# Altium footprint library SparkFun-Switches.PCBLIB: 67 footprints (part 3 of 6)
Each footprint in its own frame and in the unit in brackets; x right, y up, seen from the top. Pads: shape width x height; smd on the part's side, far side on the other; paste and mask are expansions set on the pad; w line width, h text height; cw(c..) or ccw(c..) is an arc to the next point about the centre after c.
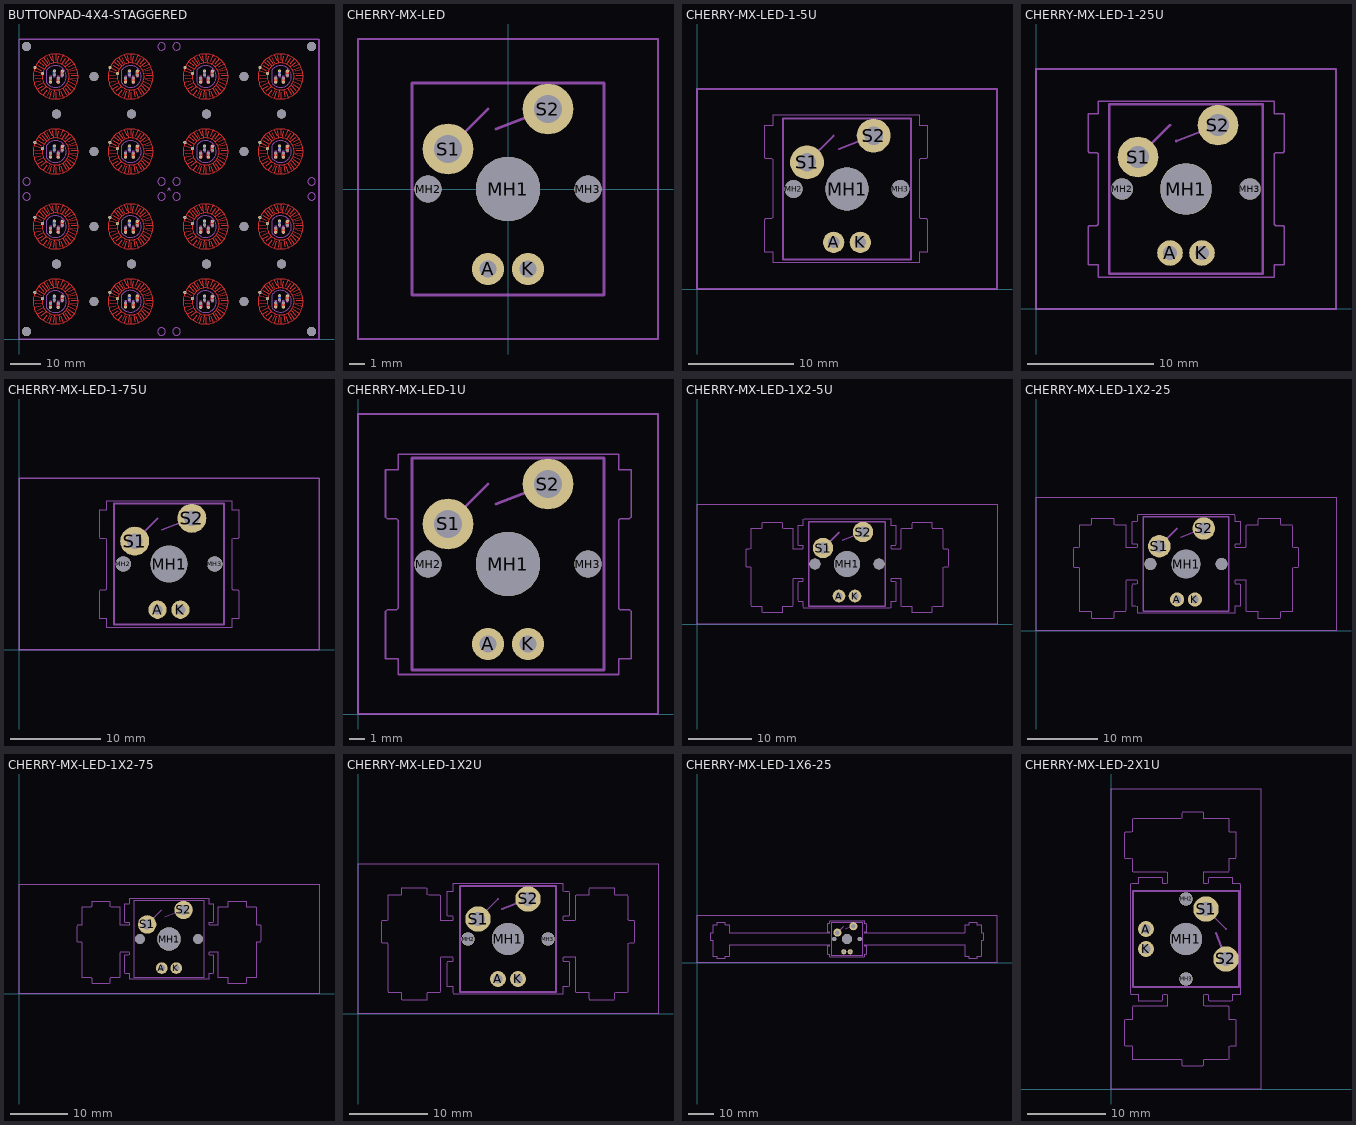
[diagram p2: the footprints below, top view; thin cyan lines are the x and y axes]

## BUTTONPAD-4X4-STAGGERED [mil]
pads (180):
  round 40 hole 20: BLU0(515,3371) BLU1(1500,3371) BLU2(2485,3371) BLU3(3470,3371) BLU4(515,2386) BLU5(1500,2386) BLU6(2485,2386) BLU7(3470,2386) BLU8(515,1401) BLU9(1500,1401) BLU10(2485,1401) BLU11(3470,1401) BLU12(515,416) BLU13(1500,421) BLU14(2485,416) BLU15(3470,421) GND0(464,3518) GND1(1449,3518) GND2(2434,3518) GND3(3419,3518) GND4(464,2533) GND5(1449,2533) GND6(2434,2533) GND7(3419,2533) GND8(464,1548) GND9(1449,1548) GND10(2434,1548) GND11(3419,1548) GND12(464,563) GND13(1449,568) GND14(2434,563) GND15(3419,568) GRN0(568,3514) GRN1(1553,3514) GRN2(2538,3514) GRN3(3523,3514) GRN4(568,2529) GRN5(1553,2529) GRN6(2538,2529) GRN7(3523,2529) GRN8(568,1544) GRN9(1553,1544) GRN10(2538,1544) GRN11(3523,1544) GRN12(568,559) GRN13(1553,564) GRN14(2538,559) GRN15(3523,564) RED0(413,3371) RED1(1398,3371) RED2(2383,3371) RED3(3368,3371) RED4(413,2386) RED5(1398,2386) RED6(2383,2386) RED7(3368,2386) RED8(413,1401) RED9(1398,1401) RED10(2383,1401) RED11(3368,1401) RED12(413,416) RED13(1398,421) RED14(2383,416) RED15(3368,421) SIG0(208.19,3563.5) SIG1(308.19,3483.5) SIG2(1192.44,3563.5) SIG3(1292.44,3483.5) SIG4(2176.69,3563.5) SIG5(2276.69,3483.5) SIG6(3160.94,3563.5) SIG7(3260.94,3483.5)
  round 118.11 hole 118.11 unplated: MH1(492.13,984.25) MH2(984.25,1476.38) MH3(1476.38,984.25) MH4(984.25,492.13) MH5(2460.63,984.25) MH6(2952.76,1476.38) MH7(3444.88,984.25) MH8(2952.76,492.13) MH9(492.13,2952.76) MH10(984.25,3444.88) MH11(1476.38,2952.76) MH12(984.25,2460.63) MH13(2460.63,2952.76) MH14(2952.76,3444.88) MH15(3444.88,2952.76) MH16(2952.76,2460.63) MH17(97.8,3839.21) MH18(3839.21,3839.21) MH19(3839.21,97.8) MH20(97.8,97.8)
  round 36 hole 36 unplated: MH21(413,3422) MH22(464,3467) MH23(515,3422) MH24(568,3463) MH25(1398,3422) MH26(1449,3467) MH27(1500,3422) MH28(1553,3463) MH29(2383,3422) MH30(2434,3467) MH31(2485,3422) MH32(2538,3463) MH33(3368,3422) MH34(3419,3467) MH35(3470,3422) MH36(3523,3463) MH37(413,2437) MH38(464,2482) MH39(515,2437) MH40(568,2478) MH41(1398,2437) MH42(1449,2482) MH43(1500,2437) MH44(1553,2478) MH45(2383,2437) MH46(2434,2482) MH47(2485,2437) MH48(2538,2478) MH49(3368,2437) MH50(3419,2482) MH51(3470,2437) MH52(3523,2478) MH53(413,1452) MH54(464,1497) MH55(515,1452) MH56(568,1493) MH57(1398,1452) MH58(1449,1497) MH59(1500,1452) MH60(1553,1493) MH61(2383,1452) MH62(2434,1497) MH63(2485,1452) MH64(2538,1493) MH65(3368,1452) MH66(3419,1497) MH67(3470,1452) MH68(3523,1493) MH69(413,467) MH70(464,512) MH71(515,467) MH72(568,508) MH73(1398,472) MH74(1449,517) MH75(1500,472) MH76(1553,513) MH77(2383,467) MH78(2434,512) MH79(2485,467) MH80(2538,508) MH81(3368,472) MH82(3419,517) MH83(3470,472) MH84(3523,513)
  round 43.62 hole 23.62: SIG8(208.19,2579.25) SIG9(308.19,2499.25) SIG10(1192.44,2579.25) SIG11(1292.44,2499.25) SIG12(2176.69,2579.25) SIG13(2276.69,2499.25) SIG14(3160.94,2579.25) SIG15(3260.94,2499.25) SIG16(208.19,1595) SIG17(308.19,1515) SIG18(1192.44,1595) SIG19(1292.44,1515) SIG20(2176.69,1595) SIG21(2276.69,1515) SIG22(3160.94,1595) SIG23(3260.94,1515) SIG24(208.19,610.75) SIG25(308.19,530.75) SIG26(1192.44,610.75) SIG27(1292.44,530.75) SIG28(2176.69,610.75) SIG29(2276.69,530.75) SIG30(3160.94,610.75) SIG31(3260.94,530.75)
Top:
  circle w10: c480.32,1476.38 r295.28
  circle w10: c480.71,1476.77 r177.17
  circle w10: c1464.57,1476.38 r295.28
  circle w10: c1464.96,1476.77 r177.17
  circle w10: c480.32,492.13 r295.28
  circle w10: c480.71,492.52 r177.17
  circle w10: c1464.57,492.13 r295.28
  circle w10: c1464.96,492.52 r177.17
  circle w10: c2448.82,1476.38 r295.28
  circle w10: c2449.21,1476.77 r177.17
  circle w10: c3433.07,1476.38 r295.28
  circle w10: c3433.46,1476.77 r177.17
  circle w10: c2448.82,492.13 r295.28
  circle w10: c2449.21,492.52 r177.17
  circle w10: c3433.07,492.13 r295.28
  circle w10: c3433.46,492.52 r177.17
  circle w10: c480.32,3444.88 r295.28
  circle w10: c480.71,3445.28 r177.17
  circle w10: c1464.57,3444.88 r295.28
  circle w10: c1464.96,3445.28 r177.17
  circle w10: c480.32,2460.63 r295.28
  circle w10: c480.71,2461.02 r177.17
  circle w10: c1464.57,2460.63 r295.28
  circle w10: c1464.96,2461.02 r177.17
  circle w10: c2448.82,3444.88 r295.28
  circle w10: c2449.21,3445.28 r177.17
  circle w10: c3433.07,3444.88 r295.28
  circle w10: c3433.46,3445.28 r177.17
  circle w10: c2448.82,2460.63 r295.28
  circle w10: c2449.21,2461.02 r177.17
  circle w10: c3433.07,2460.63 r295.28
  circle w10: c3433.46,2461.02 r177.17
  lines w10: 185.83,512.2 276.38,506.69 ; 185.83,1496.46 276.38,1490.94 ; 185.83,2480.71 276.38,2475.2 ; 185.83,3464.96 276.38,3459.45 ; 198.43,414.17 287.8,434.25 ; 198.43,1398.43 287.8,1418.5 ; 198.43,2382.68 287.8,2402.76 ; 198.43,3366.93 287.8,3387.01 ; 211.02,611.81 292.13,570.87 ; 211.02,1596.06 292.13,1555.12 ; 211.02,2580.32 292.13,2539.37 ; 211.02,3564.57 292.13,3523.62 ; 212.99,560.63 304.72,531.5 ; 212.99,1544.88 304.72,1515.75 ; 212.99,2529.13 304.72,2500 ; 212.99,3513.39 304.72,3484.25 ; 214.17,462.6 304.72,468.11 ; 214.17,1446.85 304.72,1452.36 ; 214.17,2431.1 304.72,2436.61 ; 214.17,3415.35 304.72,3420.87 ; 241.34,324.8 316.14,368.9 ; 241.34,1309.06 316.14,1353.15 ; 241.34,2293.31 316.14,2337.4 ; 241.34,3277.56 316.14,3321.65 ; 243.7,373.23 322.44,410.24 ; 243.7,1357.48 322.44,1394.49 ; 243.7,2341.73 322.44,2378.74 ; 243.7,3325.98 322.44,3362.99 ; 253.15,636.22 328.74,585.83 ; 253.15,1620.47 328.74,1570.08 ; 253.15,2604.72 328.74,2554.33 ; 253.15,3588.98 328.74,3538.58 ; 263.78,688.98 322.83,629.92 ; 263.78,1673.23 322.83,1614.17 ; 263.78,2657.48 322.83,2598.43 ; 263.78,3641.73 322.83,3582.68 ; 286.61,298.43 359.45,359.45 ; 286.61,1282.68 359.45,1343.7 ; 286.61,2266.93 359.45,2327.95 ; 286.61,3251.18 359.45,3312.2 ; 305.51,698.43 365.75,631.89 ; 305.51,1682.68 365.75,1616.14 ; 305.51,2666.93 365.75,2600.39 ; 305.51,3651.18 365.75,3584.65 ; 319.29,249.21 371.65,320.08 ; 319.29,1233.46 371.65,1304.33 ; 319.29,2217.72 371.65,2288.58 ; 319.29,3201.97 371.65,3272.83 ; 322.44,736.22 378.35,663.78 ; 322.44,1720.47 378.35,1648.03 ; 322.44,2704.72 378.35,2632.28 ; 322.44,3688.98 378.35,3616.54 ; 368.11,739.37 411.81,661.42 ; 368.11,1723.62 411.81,1645.67 ; 368.11,2707.87 411.81,2629.92 ; 368.11,3692.13 411.81,3614.17 ; 372.83,243.7 411.81,325.98 ; 372.83,1227.95 411.81,1310.24 ; 372.83,2212.2 411.81,2294.49 ; 372.83,3196.46 411.81,3278.74 ; 395.28,772.05 428.35,696.06 ; 395.28,1756.3 428.35,1680.32 ; 395.28,2740.55 428.35,2664.57 ; 395.28,3724.8 428.35,3648.82 ; 400.39,213.39 429.53,297.24 ; 400.39,1197.64 429.53,1281.5 ; 400.39,2181.89 429.53,2265.75 ; 400.39,3166.14 429.53,3250 ; 441.34,765.75 456.3,672.05 ; 441.34,1750 456.3,1656.3 ; 441.34,2734.25 456.3,2640.55 ; 441.34,3718.5 456.3,3624.8 ; 452.36,222.83 465.75,312.2 ; 452.36,1207.09 465.75,1296.46 ; 452.36,2191.34 465.75,2280.71 ; 452.36,3175.59 465.75,3264.96 ; 480.32,703.54 480.32,785.83 ; 480.32,1687.8 480.32,1770.08 ; 480.32,2672.05 480.32,2754.33 ; 480.32,3656.3 480.32,3738.58 ; 488.98,199.21 491.73,287.01 ; 488.98,1183.46 491.73,1271.26 ; 488.98,2167.72 491.73,2255.51 ; 488.98,3151.97 491.73,3239.76 ; 503.54,674.02 523.62,759.45 ; 503.54,1658.27 523.62,1743.7 ; 503.54,2642.52 523.62,2727.95 ; 503.54,3626.77 523.62,3712.2 ; 519.29,316.54 537.01,225.98 ; 519.29,1300.79 537.01,1210.24 ; 519.29,2285.04 537.01,2194.49 ; 519.29,3269.29 537.01,3178.74 ; 539.37,689.76 572.05,768.9 ; 539.37,1674.02 572.05,1753.15 ; 539.37,2658.27 572.05,2737.4 ; 539.37,3642.52 572.05,3721.65 ; 553.15,300 582.28,224.02 ; 553.15,1284.25 582.28,1208.27 ; 553.15,2268.5 582.28,2192.52 ; 553.15,3252.76 582.28,3176.77 ; 558.27,653.15 611.81,728.74 ; 558.27,1637.4 611.81,1712.99 ; 558.27,2621.65 611.81,2697.24 ; 558.27,3605.91 611.81,3681.5 ; 575.2,338.58 623.23,256.3 ; 575.2,1322.83 623.23,1240.55 ; 575.2,2307.09 623.23,2224.8 ; 575.2,3291.34 623.23,3209.06 ; 597.24,655.12 658.27,724.8 ; 597.24,1639.37 658.27,1709.06 ; 597.24,2623.62 658.27,2693.31 ; 597.24,3607.87 658.27,3677.56 ; 605.51,620.47 677.56,677.17 ; 605.51,1604.72 677.56,1661.42 ; 605.51,2588.98 677.56,2645.67 ; 605.51,3573.23 677.56,3629.92 ; 612.99,332.28 659.06,263.78 ; 612.99,1316.54 659.06,1248.03 ; 612.99,2300.79 659.06,2232.28 ; 612.99,3285.04 659.06,3216.54 ; 618.11,376.38 677.56,314.17 ; 618.11,1360.63 677.56,1298.43 ; 618.11,2344.88 677.56,2282.68 ; 618.11,3329.13 677.56,3266.93 ; 637.01,577.17 724.41,616.14 ; 637.01,1561.42 724.41,1600.39 ; 637.01,2545.67 724.41,2584.65 ; 637.01,3529.92 724.41,3568.9 ; 643.31,612.2 722.44,654.33 ; 643.31,1596.46 722.44,1638.58 ; 643.31,2580.71 722.44,2622.83 ; 643.31,3564.96 722.44,3607.09 ; 649.61,429.13 730.71,388.98 ; 649.61,1413.39 730.71,1373.23 ; 649.61,2397.64 730.71,2357.48 ; 649.61,3381.89 730.71,3341.73 ; 653.94,525.98 748.43,538.58 ; 653.94,1510.24 748.43,1522.83 ; 653.94,2494.49 748.43,2507.09 ; 653.94,3478.74 748.43,3491.34 ; 655.12,382.68 723.23,332.28 ; 655.12,1366.93 723.23,1316.54 ; 655.12,2351.18 723.23,2300.79 ; 655.12,3335.43 723.23,3285.04 ; 661.42,475.2 750.79,468.9 ; 661.42,1459.45 750.79,1453.15 ; 661.42,2443.7 750.79,2437.4 ; 661.42,3427.95 750.79,3421.65 ; 672.83,563.78 760.24,580.32 ; 672.83,1548.03 760.24,1564.57 ; 672.83,2532.28 760.24,2548.82 ; 672.83,3516.54 760.24,3533.07 ; 679.13,448.03 764.57,420.47 ; 679.13,1432.28 764.57,1404.72 ; 679.13,2416.54 764.57,2388.98 ; 679.13,3400.79 764.57,3373.23 ; 684.25,502.76 770.87,501.57 ; 684.25,1487.01 770.87,1485.83 ; 684.25,2471.26 770.87,2470.08 ; 684.25,3455.51 770.87,3454.33 ; 1170.08,512.2 1260.63,506.69 ; 1170.08,1496.46 1260.63,1490.94 ; 1170.08,2480.71 1260.63,2475.2 ; 1170.08,3464.96 1260.63,3459.45 ; 1182.68,414.17 1272.05,434.25 ; 1182.68,1398.43 1272.05,1418.5 ; 1182.68,2382.68 1272.05,2402.76 ; 1182.68,3366.93 1272.05,3387.01 ; 1195.28,611.81 1276.38,570.87 ; 1195.28,1596.06 1276.38,1555.12 ; 1195.28,2580.32 1276.38,2539.37 ; 1195.28,3564.57 1276.38,3523.62 ; 1197.24,560.63 1288.98,531.5 ; 1197.24,1544.88 1288.98,1515.75 ; 1197.24,2529.13 1288.98,2500 ; 1197.24,3513.39 1288.98,3484.25 ; 1198.43,462.6 1288.98,468.11 ; 1198.43,1446.85 1288.98,1452.36 ; 1198.43,2431.1 1288.98,2436.61 ; 1198.43,3415.35 1288.98,3420.87 ; 1225.59,324.8 1300.39,368.9 ; 1225.59,1309.06 1300.39,1353.15 ; 1225.59,2293.31 1300.39,2337.4 ; 1225.59,3277.56 1300.39,3321.65 ; 1227.95,373.23 1306.69,410.24 ; 1227.95,1357.48 1306.69,1394.49 ; 1227.95,2341.73 1306.69,2378.74 ; 1227.95,3325.98 1306.69,3362.99 ; 1237.4,636.22 1312.99,585.83 ; 1237.4,1620.47 1312.99,1570.08 ; 1237.4,2604.72 1312.99,2554.33 ; 1237.4,3588.98 1312.99,3538.58 ; 1248.03,688.98 1307.09,629.92 ; 1248.03,1673.23 1307.09,1614.17 ; 1248.03,2657.48 1307.09,2598.43 ; 1248.03,3641.73 1307.09,3582.68 ; 1270.87,298.43 1343.7,359.45 ; 1270.87,1282.68 1343.7,1343.7 ; 1270.87,2266.93 1343.7,2327.95 ; 1270.87,3251.18 1343.7,3312.2 ; 1289.76,698.43 1350,631.89 ; 1289.76,1682.68 1350,1616.14 ; 1289.76,2666.93 1350,2600.39 ; 1289.76,3651.18 1350,3584.65 ; 1303.54,249.21 1355.91,320.08 ; 1303.54,1233.46 1355.91,1304.33 ; 1303.54,2217.72 1355.91,2288.58 ; 1303.54,3201.97 1355.91,3272.83 ; 1306.69,736.22 1362.6,663.78 ; 1306.69,1720.47 1362.6,1648.03 ; 1306.69,2704.72 1362.6,2632.28 ; 1306.69,3688.98 1362.6,3616.54 ; 1352.36,739.37 1396.06,661.42 ; 1352.36,1723.62 1396.06,1645.67 ; 1352.36,2707.87 1396.06,2629.92 ; 1352.36,3692.13 1396.06,3614.17 ; 1357.09,243.7 1396.06,325.98 ; 1357.09,1227.95 1396.06,1310.24 ; 1357.09,2212.2 1396.06,2294.49 ; 1357.09,3196.46 1396.06,3278.74 ; 1379.53,772.05 1412.6,696.06 ; 1379.53,1756.3 1412.6,1680.32 ; 1379.53,2740.55 1412.6,2664.57 ; 1379.53,3724.8 1412.6,3648.82 ; 1384.65,213.39 1413.78,297.24 ; 1384.65,1197.64 1413.78,1281.5 ; 1384.65,2181.89 1413.78,2265.75 ; 1384.65,3166.14 1413.78,3250 ; 1425.59,765.75 1440.55,672.05 ; 1425.59,1750 1440.55,1656.3 ; 1425.59,2734.25 1440.55,2640.55 ; 1425.59,3718.5 1440.55,3624.8 ; 1436.61,222.83 1450,312.2 ; 1436.61,1207.09 1450,1296.46 ; 1436.61,2191.34 1450,2280.71 ; 1436.61,3175.59 1450,3264.96 ; 1464.57,703.54 1464.57,785.83 ; 1464.57,1687.8 1464.57,1770.08 ; 1464.57,2672.05 1464.57,2754.33 ; 1464.57,3656.3 1464.57,3738.58 ; 1473.23,199.21 1475.98,287.01 ; 1473.23,1183.46 1475.98,1271.26 ; 1473.23,2167.72 1475.98,2255.51 ; 1473.23,3151.97 1475.98,3239.76 ; 1487.8,674.02 1507.87,759.45 ; 1487.8,1658.27 1507.87,1743.7 ; 1487.8,2642.52 1507.87,2727.95 ; 1487.8,3626.77 1507.87,3712.2 ; 1503.54,316.54 1521.26,225.98 ; 1503.54,1300.79 1521.26,1210.24 ; 1503.54,2285.04 1521.26,2194.49 ; 1503.54,3269.29 1521.26,3178.74 ; 1523.62,689.76 1556.3,768.9 ; 1523.62,1674.02 1556.3,1753.15 ; 1523.62,2658.27 1556.3,2737.4 ; 1523.62,3642.52 1556.3,3721.65 ; 1537.4,300 1566.54,224.02 ; 1537.4,1284.25 1566.54,1208.27 ; 1537.4,2268.5 1566.54,2192.52 ; 1537.4,3252.76 1566.54,3176.77 ; 1542.52,653.15 1596.06,728.74 ; 1542.52,1637.4 1596.06,1712.99 ; 1542.52,2621.65 1596.06,2697.24 ; 1542.52,3605.91 1596.06,3681.5 ; 1559.45,338.58 1607.48,256.3 ; 1559.45,1322.83 1607.48,1240.55 ; 1559.45,2307.09 1607.48,2224.8 ; 1559.45,3291.34 1607.48,3209.06 ; 1581.5,655.12 1642.52,724.8 ; 1581.5,1639.37 1642.52,1709.06 ; 1581.5,2623.62 1642.52,2693.31 ; 1581.5,3607.87 1642.52,3677.56 ; 1589.76,620.47 1661.81,677.17 ; 1589.76,1604.72 1661.81,1661.42 ; 1589.76,2588.98 1661.81,2645.67 ; 1589.76,3573.23 1661.81,3629.92 ; 1597.24,332.28 1643.31,263.78 ; 1597.24,1316.54 1643.31,1248.03 ; 1597.24,2300.79 1643.31,2232.28 ; 1597.24,3285.04 1643.31,3216.54 ; 1602.36,376.38 1661.81,314.17 ; 1602.36,1360.63 1661.81,1298.43 ; 1602.36,2344.88 1661.81,2282.68 ; 1602.36,3329.13 1661.81,3266.93 ; 1621.26,577.17 1708.66,616.14 ; 1621.26,1561.42 1708.66,1600.39 ; 1621.26,2545.67 1708.66,2584.65 ; 1621.26,3529.92 1708.66,3568.9 ; 1627.56,612.2 1706.69,654.33 ; 1627.56,1596.46 1706.69,1638.58 ; 1627.56,2580.71 1706.69,2622.83 ; 1627.56,3564.96 1706.69,3607.09 ; 1633.86,429.13 1714.96,388.98 ; 1633.86,1413.39 1714.96,1373.23 ; 1633.86,2397.64 1714.96,2357.48 ; 1633.86,3381.89 1714.96,3341.73 ; 1638.19,525.98 1732.68,538.58 ; 1638.19,1510.24 1732.68,1522.83 ; 1638.19,2494.49 1732.68,2507.09 ; 1638.19,3478.74 1732.68,3491.34 ; 1639.37,382.68 1707.48,332.28 ; 1639.37,1366.93 1707.48,1316.54 ; 1639.37,2351.18 1707.48,2300.79 ; 1639.37,3335.43 1707.48,3285.04 ; 1645.67,475.2 1735.04,468.9 ; 1645.67,1459.45 1735.04,1453.15 ; 1645.67,2443.7 1735.04,2437.4 ; 1645.67,3427.95 1735.04,3421.65 ; 1657.09,563.78 1744.49,580.32 ; 1657.09,1548.03 1744.49,1564.57 ; 1657.09,2532.28 1744.49,2548.82 ; 1657.09,3516.54 1744.49,3533.07 ; 1663.39,448.03 1748.82,420.47 ; 1663.39,1432.28 1748.82,1404.72 ; 1663.39,2416.54 1748.82,2388.98 ; 1663.39,3400.79 1748.82,3373.23 ; 1668.5,502.76 1755.12,501.57 ; 1668.5,1487.01 1755.12,1485.83 ; 1668.5,2471.26 1755.12,2470.08 ; 1668.5,3455.51 1755.12,3454.33 ; 2154.33,512.2 2244.88,506.69 ; 2154.33,1496.46 2244.88,1490.94 ; 2154.33,2480.71 2244.88,2475.2 ; 2154.33,3464.96 2244.88,3459.45 ; 2166.93,414.17 2256.3,434.25 ; 2166.93,1398.43 2256.3,1418.5 ; 2166.93,2382.68 2256.3,2402.76 ; 2166.93,3366.93 2256.3,3387.01 ; 2179.53,611.81 2260.63,570.87 ; 2179.53,1596.06 2260.63,1555.12 ; 2179.53,2580.32 2260.63,2539.37 ; 2179.53,3564.57 2260.63,3523.62 ; 2181.5,560.63 2273.23,531.5 ; 2181.5,1544.88 2273.23,1515.75 ; 2181.5,2529.13 2273.23,2500 ; 2181.5,3513.39 2273.23,3484.25 ; 2182.68,462.6 2273.23,468.11 ; 2182.68,1446.85 2273.23,1452.36 ; 2182.68,2431.1 2273.23,2436.61 ; 2182.68,3415.35 2273.23,3420.87 ; 2209.84,324.8 2284.65,368.9 ; 2209.84,1309.06 2284.65,1353.15 ; 2209.84,2293.31 2284.65,2337.4 ; 2209.84,3277.56 2284.65,3321.65 ; 2212.2,373.23 2290.94,410.24 ; 2212.2,1357.48 2290.94,1394.49 ; 2212.2,2341.73 2290.94,2378.74 ; 2212.2,3325.98 2290.94,3362.99 ; 2221.65,636.22 2297.24,585.83 ; 2221.65,1620.47 2297.24,1570.08 ; 2221.65,2604.72 2297.24,2554.33 ; 2221.65,3588.98 2297.24,3538.58 ; 2232.28,688.98 2291.34,629.92 ; 2232.28,1673.23 2291.34,1614.17 ; 2232.28,2657.48 2291.34,2598.43 ; 2232.28,3641.73 2291.34,3582.68 ; 2255.12,298.43 2327.95,359.45 ; 2255.12,1282.68 2327.95,1343.7 ; 2255.12,2266.93 2327.95,2327.95 ; 2255.12,3251.18 2327.95,3312.2 ; 2274.02,698.43 2334.25,631.89 ; 2274.02,1682.68 2334.25,1616.14 ; 2274.02,2666.93 2334.25,2600.39 ; 2274.02,3651.18 2334.25,3584.65 ; 2287.8,249.21 2340.16,320.08 ; 2287.8,1233.46 2340.16,1304.33 ; 2287.8,2217.72 2340.16,2288.58 ; 2287.8,3201.97 2340.16,3272.83 ; 2290.94,736.22 2346.85,663.78 ; 2290.94,1720.47 2346.85,1648.03 ; 2290.94,2704.72 2346.85,2632.28 ; 2290.94,3688.98 2346.85,3616.54 ; 2336.61,739.37 2380.32,661.42 ; 2336.61,1723.62 2380.32,1645.67 ; 2336.61,2707.87 2380.32,2629.92 ; 2336.61,3692.13 2380.32,3614.17 ; 2341.34,243.7 2380.32,325.98 ; 2341.34,1227.95 2380.32,1310.24 ; 2341.34,2212.2 2380.32,2294.49 ; 2341.34,3196.46 2380.32,3278.74 ; 2363.78,772.05 2396.85,696.06 ; 2363.78,1756.3 2396.85,1680.32 ; 2363.78,2740.55 2396.85,2664.57 ; 2363.78,3724.8 2396.85,3648.82 ; 2368.9,213.39 2398.03,297.24 ; 2368.9,1197.64 2398.03,1281.5 ; 2368.9,2181.89 2398.03,2265.75 ; 2368.9,3166.14 2398.03,3250 ; 2409.84,765.75 2424.8,672.05 ; 2409.84,1750 2424.8,1656.3 ; 2409.84,2734.25 2424.8,2640.55 ; 2409.84,3718.5 2424.8,3624.8 ; 2420.87,222.83 2434.25,312.2 ; 2420.87,1207.09 2434.25,1296.46 ; 2420.87,2191.34 2434.25,2280.71 ; 2420.87,3175.59 2434.25,3264.96 ; 2448.82,703.54 2448.82,785.83 ; 2448.82,1687.8 2448.82,1770.08 ; 2448.82,2672.05 2448.82,2754.33 ; 2448.82,3656.3 2448.82,3738.58 ; 2457.48,199.21 2460.24,287.01 ; 2457.48,1183.46 2460.24,1271.26 ; 2457.48,2167.72 2460.24,2255.51 ; 2457.48,3151.97 2460.24,3239.76 ; 2472.05,674.02 2492.13,759.45 ; 2472.05,1658.27 2492.13,1743.7 ; 2472.05,2642.52 2492.13,2727.95 ; 2472.05,3626.77 2492.13,3712.2 ; 2487.8,316.54 2505.51,225.98 ; 2487.8,1300.79 2505.51,1210.24 ; 2487.8,2285.04 2505.51,2194.49 ; 2487.8,3269.29 2505.51,3178.74 ; 2507.87,689.76 2540.55,768.9 ; 2507.87,1674.02 2540.55,1753.15 ; 2507.87,2658.27 2540.55,2737.4 ; 2507.87,3642.52 2540.55,3721.65 ; 2521.65,300 2550.79,224.02 ; 2521.65,1284.25 2550.79,1208.27 ; 2521.65,2268.5 2550.79,2192.52 ; 2521.65,3252.76 2550.79,3176.77 ; 2526.77,653.15 2580.32,728.74 ; 2526.77,1637.4 2580.32,1712.99 ; 2526.77,2621.65 2580.32,2697.24 ; 2526.77,3605.91 2580.32,3681.5 ; 2543.7,338.58 2591.73,256.3 ; 2543.7,1322.83 2591.73,1240.55 ; 2543.7,2307.09 2591.73,2224.8 ; 2543.7,3291.34 2591.73,3209.06 ; 2565.75,655.12 2626.77,724.8 ; 2565.75,1639.37 2626.77,1709.06 ; 2565.75,2623.62 2626.77,2693.31 ; 2565.75,3607.87 2626.77,3677.56 ; 2574.02,620.47 2646.06,677.17 ; 2574.02,1604.72 2646.06,1661.42 ; 2574.02,2588.98 2646.06,2645.67 ; 2574.02,3573.23 2646.06,3629.92 ; 2581.5,332.28 2627.56,263.78 ; 2581.5,1316.54 2627.56,1248.03 ; 2581.5,2300.79 2627.56,2232.28 ; 2581.5,3285.04 2627.56,3216.54 ; 2586.61,376.38 2646.06,314.17 ; 2586.61,1360.63 2646.06,1298.43 ; 2586.61,2344.88 2646.06,2282.68 ; 2586.61,3329.13 2646.06,3266.93 ; 2605.51,577.17 2692.91,616.14 ; 2605.51,1561.42 2692.91,1600.39 ; 2605.51,2545.67 2692.91,2584.65 ; 2605.51,3529.92 2692.91,3568.9 ; 2611.81,612.2 2690.94,654.33 ; 2611.81,1596.46 2690.94,1638.58 ; 2611.81,2580.71 2690.94,2622.83 ; 2611.81,3564.96 2690.94,3607.09 ; 2618.11,429.13 2699.21,388.98 ; 2618.11,1413.39 2699.21,1373.23 ; 2618.11,2397.64 2699.21,2357.48 ; 2618.11,3381.89 2699.21,3341.73 ; 2622.44,525.98 2716.93,538.58 ; 2622.44,1510.24 2716.93,1522.83 ; 2622.44,2494.49 2716.93,2507.09 ; 2622.44,3478.74 2716.93,3491.34 ; 2623.62,382.68 2691.73,332.28 ; 2623.62,1366.93 2691.73,1316.54 ; 2623.62,2351.18 2691.73,2300.79 ; 2623.62,3335.43 2691.73,3285.04 ; 2629.92,475.2 2719.29,468.9 ; 2629.92,1459.45 2719.29,1453.15 ; 2629.92,2443.7 2719.29,2437.4 ; 2629.92,3427.95 2719.29,3421.65 ; 2641.34,563.78 2728.74,580.32 ; 2641.34,1548.03 2728.74,1564.57 ; 2641.34,2532.28 2728.74,2548.82 ; 2641.34,3516.54 2728.74,3533.07 ; 2647.64,448.03 2733.07,420.47 ; 2647.64,1432.28 2733.07,1404.72 ; 2647.64,2416.54 2733.07,2388.98 ; 2647.64,3400.79 2733.07,3373.23 ; 2652.76,502.76 2739.37,501.57 ; 2652.76,1487.01 2739.37,1485.83 ; 2652.76,2471.26 2739.37,2470.08 ; 2652.76,3455.51 2739.37,3454.33 ; 3138.58,512.2 3229.13,506.69 ; 3138.58,1496.46 3229.13,1490.94 ; 3138.58,2480.71 3229.13,2475.2 ; 3138.58,3464.96 3229.13,3459.45 ; 3151.18,414.17 3240.55,434.25 ; 3151.18,1398.43 3240.55,1418.5 ; 3151.18,2382.68 3240.55,2402.76 ; 3151.18,3366.93 3240.55,3387.01 ; 3163.78,611.81 3244.88,570.87 ; 3163.78,1596.06 3244.88,1555.12 ; 3163.78,2580.32 3244.88,2539.37 ; 3163.78,3564.57 3244.88,3523.62 ; 3165.75,560.63 3257.48,531.5 ; 3165.75,1544.88 3257.48,1515.75 ; 3165.75,2529.13 3257.48,2500 ; 3165.75,3513.39 3257.48,3484.25 ; 3166.93,462.6 3257.48,468.11 ; 3166.93,1446.85 3257.48,1452.36 ; 3166.93,2431.1 3257.48,2436.61 ; 3166.93,3415.35 3257.48,3420.87 ; 3194.09,324.8 3268.9,368.9 ; 3194.09,1309.06 3268.9,1353.15 ; 3194.09,2293.31 3268.9,2337.4 ; 3194.09,3277.56 3268.9,3321.65 ; 3196.46,373.23 3275.2,410.24 ; 3196.46,1357.48 3275.2,1394.49 ; 3196.46,2341.73 3275.2,2378.74 ; 3196.46,3325.98 3275.2,3362.99 ; 3205.91,636.22 3281.5,585.83 ; 3205.91,1620.47 3281.5,1570.08 ; 3205.91,2604.72 3281.5,2554.33 ; 3205.91,3588.98 3281.5,3538.58 ; 3216.54,688.98 3275.59,629.92 ; 3216.54,1673.23 3275.59,1614.17 ; 3216.54,2657.48 3275.59,2598.43 ; 3216.54,3641.73 3275.59,3582.68 ; 3239.37,298.43 3312.2,359.45 ; 3239.37,1282.68 3312.2,1343.7 ; 3239.37,2266.93 3312.2,2327.95 ; 3239.37,3251.18 3312.2,3312.2 ; 3258.27,698.43 3318.5,631.89 ; 3258.27,1682.68 3318.5,1616.14 ; 3258.27,2666.93 3318.5,2600.39 ; 3258.27,3651.18 3318.5,3584.65 ; 3272.05,249.21 3324.41,320.08 ; 3272.05,1233.46 3324.41,1304.33 ; 3272.05,2217.72 3324.41,2288.58 ; 3272.05,3201.97 3324.41,3272.83 ; 3275.2,736.22 3331.1,663.78 ; 3275.2,1720.47 3331.1,1648.03 ; 3275.2,2704.72 3331.1,2632.28 ; 3275.2,3688.98 3331.1,3616.54 ; 3320.87,739.37 3364.57,661.42 ; 3320.87,1723.62 3364.57,1645.67 ; 3320.87,2707.87 3364.57,2629.92 ; 3320.87,3692.13 3364.57,3614.17 ; 3325.59,243.7 3364.57,325.98 ; 3325.59,1227.95 3364.57,1310.24 ; 3325.59,2212.2 3364.57,2294.49 ; 3325.59,3196.46 3364.57,3278.74 ; 3348.03,772.05 3381.1,696.06 ; 3348.03,1756.3 3381.1,1680.32 ; 3348.03,2740.55 3381.1,2664.57 ; 3348.03,3724.8 3381.1,3648.82 ; 3353.15,213.39 3382.28,297.24 ; 3353.15,1197.64 3382.28,1281.5 ; 3353.15,2181.89 3382.28,2265.75 ; 3353.15,3166.14 3382.28,3250 ; 3394.09,765.75 3409.06,672.05 ; 3394.09,1750 3409.06,1656.3 ; 3394.09,2734.25 3409.06,2640.55 ; 3394.09,3718.5 3409.06,3624.8 ; 3405.12,222.83 3418.5,312.2 ; 3405.12,1207.09 3418.5,1296.46 ; 3405.12,2191.34 3418.5,2280.71 ; 3405.12,3175.59 3418.5,3264.96 ; 3433.07,703.54 3433.07,785.83 ; 3433.07,1687.8 3433.07,1770.08 ; 3433.07,2672.05 3433.07,2754.33 ; 3433.07,3656.3 3433.07,3738.58 ; 3441.73,199.21 3444.49,287.01 ; 3441.73,1183.46 3444.49,1271.26 ; 3441.73,2167.72 3444.49,2255.51 ; 3441.73,3151.97 3444.49,3239.76 ; 3456.3,674.02 3476.38,759.45 ; 3456.3,1658.27 3476.38,1743.7 ; 3456.3,2642.52 3476.38,2727.95 ; 3456.3,3626.77 3476.38,3712.2 ; 3472.05,316.54 3489.76,225.98 ; 3472.05,1300.79 3489.76,1210.24 ; 3472.05,2285.04 3489.76,2194.49 ; 3472.05,3269.29 3489.76,3178.74 ; 3492.13,689.76 3524.8,768.9 ; 3492.13,1674.02 3524.8,1753.15 ; 3492.13,2658.27 3524.8,2737.4 ; 3492.13,3642.52 3524.8,3721.65 ; 3505.91,300 3535.04,224.02 ; 3505.91,1284.25 3535.04,1208.27 ; 3505.91,2268.5 3535.04,2192.52 ; 3505.91,3252.76 3535.04,3176.77 ; 3511.02,653.15 3564.57,728.74 ; 3511.02,1637.4 3564.57,1712.99 ; 3511.02,2621.65 3564.57,2697.24 ; 3511.02,3605.91 3564.57,3681.5 ; 3527.95,338.58 3575.98,256.3 ; 3527.95,1322.83 3575.98,1240.55 ; 3527.95,2307.09 3575.98,2224.8 ; 3527.95,3291.34 3575.98,3209.06 ; 3550,655.12 3611.02,724.8 ; 3550,1639.37 3611.02,1709.06 ; 3550,2623.62 3611.02,2693.31 ; 3550,3607.87 3611.02,3677.56 ; 3558.27,620.47 3630.32,677.17 ; 3558.27,1604.72 3630.32,1661.42 ; 3558.27,2588.98 3630.32,2645.67 ; 3558.27,3573.23 3630.32,3629.92 ; 3565.75,332.28 3611.81,263.78 ; 3565.75,1316.54 3611.81,1248.03 ; 3565.75,2300.79 3611.81,2232.28 ; 3565.75,3285.04 3611.81,3216.54 ; 3570.87,376.38 3630.32,314.17 ; 3570.87,1360.63 3630.32,1298.43 ; 3570.87,2344.88 3630.32,2282.68 ; 3570.87,3329.13 3630.32,3266.93 ; 3589.76,577.17 3677.17,616.14 ; 3589.76,1561.42 3677.17,1600.39 ; 3589.76,2545.67 3677.17,2584.65 ; 3589.76,3529.92 3677.17,3568.9 ; 3596.06,612.2 3675.2,654.33 ; 3596.06,1596.46 3675.2,1638.58 ; 3596.06,2580.71 3675.2,2622.83 ; 3596.06,3564.96 3675.2,3607.09 ; 3602.36,429.13 3683.46,388.98 ; 3602.36,1413.39 3683.46,1373.23 ; 3602.36,2397.64 3683.46,2357.48 ; 3602.36,3381.89 3683.46,3341.73 ; 3606.69,525.98 3701.18,538.58 ; 3606.69,1510.24 3701.18,1522.83 ; 3606.69,2494.49 3701.18,2507.09 ; 3606.69,3478.74 3701.18,3491.34 ; 3607.87,382.68 3675.98,332.28 ; 3607.87,1366.93 3675.98,1316.54 ; 3607.87,2351.18 3675.98,2300.79 ; 3607.87,3335.43 3675.98,3285.04 ; 3614.17,475.2 3703.54,468.9 ; 3614.17,1459.45 3703.54,1453.15 ; 3614.17,2443.7 3703.54,2437.4 ; 3614.17,3427.95 3703.54,3421.65 ; 3625.59,563.78 3712.99,580.32 ; 3625.59,1548.03 3712.99,1564.57 ; 3625.59,2532.28 3712.99,2548.82 ; 3625.59,3516.54 3712.99,3533.07 ; 3631.89,448.03 3717.32,420.47 ; 3631.89,1432.28 3717.32,1404.72 ; 3631.89,2416.54 3717.32,2388.98 ; 3631.89,3400.79 3717.32,3373.23 ; 3637.01,502.76 3723.62,501.57 ; 3637.01,1487.01 3723.62,1485.83 ; 3637.01,2471.26 3723.62,2470.08 ; 3637.01,3455.51 3723.62,3454.33
  lines w45: 413,416 413,467 ; 413,1401 413,1452 ; 413,2386 413,2437 ; 413,3371 413,3422 ; 515,416 515,467 ; 515,1401 515,1452 ; 515,2386 515,2437 ; 515,3371 515,3422 ; 568,508 568,559 ; 568,1493 568,1544 ; 568,2478 568,2529 ; 568,3463 568,3514 ; 1398,421 1398,472 ; 1398,1401 1398,1452 ; 1398,2386 1398,2437 ; 1398,3371 1398,3422 ; 1500,421 1500,472 ; 1500,1401 1500,1452 ; 1500,2386 1500,2437 ; 1500,3371 1500,3422 ; 1553,513 1553,564 ; 1553,1493 1553,1544 ; 1553,2478 1553,2529 ; 1553,3463 1553,3514 ; 2383,416 2383,467 ; 2383,1401 2383,1452 ; 2383,2386 2383,2437 ; 2383,3371 2383,3422 ; 2485,416 2485,467 ; 2485,1401 2485,1452 ; 2485,2386 2485,2437 ; 2485,3371 2485,3422 ; 2538,508 2538,559 ; 2538,1493 2538,1544 ; 2538,2478 2538,2529 ; 2538,3463 2538,3514 ; 3368,421 3368,472 ; 3368,1401 3368,1452 ; 3368,2386 3368,2437 ; 3368,3371 3368,3422 ; 3470,421 3470,472 ; 3470,1401 3470,1452 ; 3470,2386 3470,2437 ; 3470,3371 3470,3422 ; 3523,513 3523,564 ; 3523,1493 3523,1544 ; 3523,2478 3523,2529 ; 3523,3463 3523,3514
Bottom:
  lines w44: 464,512 464,563 ; 464,1497 464,1548 ; 464,2482 464,2533 ; 464,3467 464,3518 ; 1449,517 1449,568 ; 1449,1497 1449,1548 ; 1449,2482 1449,2533 ; 1449,3467 1449,3518 ; 2434,512 2434,563 ; 2434,1497 2434,1548 ; 2434,2482 2434,2533 ; 2434,3467 2434,3518 ; 3419,517 3419,568 ; 3419,1497 3419,1548 ; 3419,2482 3419,2533 ; 3419,3467 3419,3518
  lines w45: 413,416 413,467 ; 413,1401 413,1452 ; 413,2386 413,2437 ; 413,3371 413,3422 ; 515,416 515,467 ; 515,1401 515,1452 ; 515,2386 515,2437 ; 515,3371 515,3422 ; 568,508 568,559 ; 568,1493 568,1544 ; 568,2478 568,2529 ; 568,3463 568,3514 ; 1398,421 1398,472 ; 1398,1401 1398,1452 ; 1398,2386 1398,2437 ; 1398,3371 1398,3422 ; 1500,421 1500,472 ; 1500,1401 1500,1452 ; 1500,2386 1500,2437 ; 1500,3371 1500,3422 ; 1553,513 1553,564 ; 1553,1493 1553,1544 ; 1553,2478 1553,2529 ; 1553,3463 1553,3514 ; 2383,416 2383,467 ; 2383,1401 2383,1452 ; 2383,2386 2383,2437 ; 2383,3371 2383,3422 ; 2485,416 2485,467 ; 2485,1401 2485,1452 ; 2485,2386 2485,2437 ; 2485,3371 2485,3422 ; 2538,508 2538,559 ; 2538,1493 2538,1544 ; 2538,2478 2538,2529 ; 2538,3463 2538,3514 ; 3368,421 3368,472 ; 3368,1401 3368,1452 ; 3368,2386 3368,2437 ; 3368,3371 3368,3422 ; 3470,421 3470,472 ; 3470,1401 3470,1452 ; 3470,2386 3470,2437 ; 3470,3371 3470,3422 ; 3523,513 3523,564 ; 3523,1493 3523,1544 ; 3523,2478 3523,2529 ; 3523,3463 3523,3514
Top Solder:
  drawing of 672 lines, arcs and shapes, not listed
Bottom Solder:
  lines w45: 413,416 413,467 ; 413,1401 413,1452 ; 413,2386 413,2437 ; 413,3371 413,3422 ; 464,512 464,563 ; 464,1497 464,1548 ; 464,2482 464,2533 ; 464,3467 464,3518 ; 515,416 515,467 ; 515,1401 515,1452 ; 515,2386 515,2437 ; 515,3371 515,3422 ; 568,508 568,559 ; 568,1493 568,1544 ; 568,2478 568,2529 ; 568,3463 568,3514 ; 1398,421 1398,472 ; 1398,1401 1398,1452 ; 1398,2386 1398,2437 ; 1398,3371 1398,3422 ; 1449,517 1449,568 ; 1449,1497 1449,1548 ; 1449,2482 1449,2533 ; 1449,3467 1449,3518 ; 1500,421 1500,472 ; 1500,1401 1500,1452 ; 1500,2386 1500,2437 ; 1500,3371 1500,3422 ; 1553,513 1553,564 ; 1553,1493 1553,1544 ; 1553,2478 1553,2529 ; 1553,3463 1553,3514 ; 2383,416 2383,467 ; 2383,1401 2383,1452 ; 2383,2386 2383,2437 ; 2383,3371 2383,3422 ; 2434,512 2434,563 ; 2434,1497 2434,1548 ; 2434,2482 2434,2533 ; 2434,3467 2434,3518 ; 2485,416 2485,467 ; 2485,1401 2485,1452 ; 2485,2386 2485,2437 ; 2485,3371 2485,3422 ; 2538,508 2538,559 ; 2538,1493 2538,1544 ; 2538,2478 2538,2529 ; 2538,3463 2538,3514 ; 3368,421 3368,472 ; 3368,1401 3368,1452 ; 3368,2386 3368,2437 ; 3368,3371 3368,3422 ; 3419,517 3419,568 ; 3419,1497 3419,1548 ; 3419,2482 3419,2533 ; 3419,3467 3419,3518 ; 3470,421 3470,472 ; 3470,1401 3470,1452 ; 3470,2386 3470,2437 ; 3470,3371 3470,3422 ; 3523,513 3523,564 ; 3523,1493 3523,1544 ; 3523,2478 3523,2529 ; 3523,3463 3523,3514
tDocu:
  drawing of 86 lines, arcs and shapes, not listed
tPlace:
  lines w8: 464,512 464,563 ; 464,1497 464,1548 ; 464,2482 464,2533 ; 464,3467 464,3518 ; 1449,517 1449,568 ; 1449,1497 1449,1548 ; 1449,2482 1449,2533 ; 1449,3467 1449,3518 ; 2434,512 2434,563 ; 2434,1497 2434,1548 ; 2434,2482 2434,2533 ; 2434,3467 2434,3518 ; 3419,517 3419,568 ; 3419,1497 3419,1548 ; 3419,2482 3419,2533 ; 3419,3467 3419,3518 ; 0,0 3937.01,0 3937.01,3937.01 0,3937.01 0,0 ; 360.08,411.26 360.08,568.74 cw(c478.19,490) 360.08,411.26 ; 360.08,1396.26 360.08,1553.74 cw(c478.19,1475) 360.08,1396.26 ; 360.08,2381.26 360.08,2538.74 cw(c478.19,2460) 360.08,2381.26 ; 360.08,3366.26 360.08,3523.74 cw(c478.19,3445) 360.08,3366.26 ; 1345.08,416.26 1345.08,573.74 cw(c1463.19,495) 1345.08,416.26 ; 1345.08,1396.26 1345.08,1553.74 cw(c1463.19,1475) 1345.08,1396.26 ; 1345.08,2381.26 1345.08,2538.74 cw(c1463.19,2460) 1345.08,2381.26 ; 1345.08,3366.26 1345.08,3523.74 cw(c1463.19,3445) 1345.08,3366.26 ; 2330.08,411.26 2330.08,568.74 cw(c2448.19,490) 2330.08,411.26 ; 2330.08,1396.26 2330.08,1553.74 cw(c2448.19,1475) 2330.08,1396.26 ; 2330.08,2381.26 2330.08,2538.74 cw(c2448.19,2460) 2330.08,2381.26 ; 2330.08,3366.26 2330.08,3523.74 cw(c2448.19,3445) 2330.08,3366.26 ; 3315.08,416.26 3315.08,573.74 cw(c3433.19,495) 3315.08,416.26 ; 3315.08,1396.26 3315.08,1553.74 cw(c3433.19,1475) 3315.08,1396.26 ; 3315.08,2381.26 3315.08,2538.74 cw(c3433.19,2460) 3315.08,2381.26 ; 3315.08,3366.26 3315.08,3523.74 cw(c3433.19,3445) 3315.08,3366.26
  text "B8" at 429.57,1487.6 h62
  text "B9" at 1409.57,1491.85 h62
  text "B12" at 428.82,493.07 h62
  text "B13" at 1418.82,502.32 h62
  text "B10" at 2399.57,1476.57 h62
  text "B11" at 3384.57,1480.83 h62
  text "B14" at 2398.82,496.57 h62
  text "B15" at 3388.82,500.83 h62
  text "B0" at 431.06,3462.6 h62
  text "B1" at 1416.06,3456.85 h62
  text "B4" at 425.32,2477.6 h62
  text "B5" at 1415.32,2471.85 h62
  text "B2" at 2401.06,3461.1 h62
  text "B3" at 3386.06,3455.35 h62
  text "B6" at 2400.32,2471.1 h62
  text "B7" at 3385.32,2470.35 h62
  text "Col0" at 462.6,3838.58 h62
  text "Col1" at 1446.85,3838.58 h62
  text "Col2" at 2431.1,3838.58 h62
  text "Col3" at 3375.98,3838.58 h62
  text "Row0" at 118.11,3395.67 h62
  text "Row1" at 108.27,2411.42 h62
  text "Row2" at 108.27,1427.17 h62
  text "Row3" at 108.27,433.07 h62

## CHERRY-MX-LED [mil]
pads (7):
  round 80 hole 43: A(-50,-200) K(50,-200)
  round 161 hole 161 unplated: MH1(0,0)
  round 67.2 hole 67.2 unplated: MH2(-200,0) MH3(200,0)
  round 127 hole 69: S1(-150,100) S2(100,200)
tDocu:
  lines w6: -375,-375 375,-375 375,375 -375,375 -375,-375
  text "1x1U" at 150,-350 h77.5
tPlace:
  lines w8: -150,100 -50,200 ; -30,150 100,200 ; -240,-265 240,-265 240,265 -240,265 -240,-265
  text "+" at -85,-200 h51
  text "-" at 100,-200 h51

## CHERRY-MX-LED-1-5U [mil]
pads (7):
  round 80 hole 43: A(512.5,175) K(612.5,175)
  round 161 hole 161 unplated: MH1(562.5,375)
  round 67.2 hole 67.2 unplated: MH2(362.5,375) MH3(762.5,375)
  round 127 hole 69: S1(412.5,475) S2(662.5,575)
tDocu:
  lines w6: 0,0 1125,0 1125,750 0,750 0,0
  text "1x1.5U" at 859,21 h77.5
tPlace:
  lines w8: 412.5,475 512.5,575 ; 532.5,525 662.5,575 ; 322.5,110 802.5,110 802.5,640 322.5,640 322.5,110
  text "+" at 477.5,175 h51
  text "-" at 662.5,175 h51
Reference:
  lines w3.94: 251.72,140.59 251.72,258.7 255.66,262.64 279.28,262.64 283.22,266.57 283.22,487.05 279.28,490.98 255.66,490.98 251.72,494.92 251.72,613.03 283.22,613.03 283.22,652.4 834.4,652.4 834.4,613.03 865.89,613.03 865.89,494.92 861.96,490.98 838.33,490.98 834.4,487.05 834.4,266.57 838.33,262.64 861.96,262.64 865.89,258.7 865.89,140.59 834.4,140.59 834.4,101.22 283.22,101.22 283.22,140.59 251.72,140.59

## CHERRY-MX-LED-1-25U [mil]
pads (7):
  round 80 hole 43: A(419,175) K(519,175)
  round 161 hole 161 unplated: MH1(469,375)
  round 67.2 hole 67.2 unplated: MH2(269,375) MH3(669,375)
  round 127 hole 69: S1(319,475) S2(569,575)
tDocu:
  lines w6: 0,0 938,0 938,750 0,750 0,0
  text "1x1.25U" at 619,25 h77.5
tPlace:
  lines w8: 319,475 419,575 ; 439,525 569,575 ; 229,110 709,110 709,640 229,640 229,110
  text "+" at 384,175 h51
  text "-" at 569,175 h51
Reference:
  lines w3.94: 162.72,138.09 162.72,256.2 166.66,260.14 190.28,260.14 194.22,264.07 194.22,484.55 190.28,488.48 166.66,488.48 162.72,492.42 162.72,610.53 194.22,610.53 194.22,649.9 745.4,649.9 745.4,610.53 776.89,610.53 776.89,492.42 772.96,488.48 749.33,488.48 745.4,484.55 745.4,264.07 749.33,260.14 772.96,260.14 776.89,256.2 776.89,138.09 745.4,138.09 745.4,98.72 194.22,98.72 194.22,138.09 162.72,138.09

## CHERRY-MX-LED-1-75U [mil]
pads (7):
  round 80 hole 43: A(606.5,175) K(706.5,175)
  round 161 hole 161 unplated: MH1(656.5,375)
  round 67.2 hole 67.2 unplated: MH2(456.5,375) MH3(856.5,375)
  round 127 hole 69: S1(506.5,475) S2(756.5,575)
tDocu:
  lines w6: 0,0 1313,0 1313,750 0,750 0,0
  text "1x1.75U" at 1006.5,25 h77.5
tPlace:
  lines w8: 506.5,475 606.5,575 ; 626.5,525 756.5,575 ; 416.5,110 896.5,110 896.5,640 416.5,640 416.5,110
  text "+" at 571.5,175 h51
  text "-" at 756.5,175 h51
Reference:
  lines w3.94: 350.22,138.09 350.22,256.2 354.16,260.14 377.78,260.14 381.72,264.07 381.72,484.55 377.78,488.48 354.16,488.48 350.22,492.42 350.22,610.53 381.72,610.53 381.72,649.9 932.9,649.9 932.9,610.53 964.39,610.53 964.39,492.42 960.46,488.48 936.83,488.48 932.9,484.55 932.9,264.07 936.83,260.14 960.46,260.14 964.39,256.2 964.39,138.09 932.9,138.09 932.9,98.72 381.72,98.72 381.72,138.09 350.22,138.09

## CHERRY-MX-LED-1U [mil]
pads (7):
  round 80 hole 43: A(325,175) K(425,175)
  round 161 hole 161 unplated: MH1(375,375)
  round 67.2 hole 67.2 unplated: MH2(175,375) MH3(575,375)
  round 127 hole 69: S1(225,475) S2(475,575)
tDocu:
  lines w6: 0,0 750,0 750,750 0,750 0,0
  text "1x1U" at 525,25 h77.5
tPlace:
  lines w8: 225,475 325,575 ; 345,525 475,575 ; 135,110 615,110 615,640 135,640 135,110
  text "+" at 290,175 h51
  text "-" at 475,175 h51
Reference:
  lines w3.94: 68.72,138.09 68.72,256.2 72.66,260.14 96.28,260.14 100.22,264.07 100.22,484.55 96.28,488.48 72.66,488.48 68.72,492.42 68.72,610.53 100.22,610.53 100.22,649.9 651.4,649.9 651.4,610.53 682.89,610.53 682.89,492.42 678.96,488.48 655.33,488.48 651.4,484.55 651.4,264.07 655.33,260.14 678.96,260.14 682.89,256.2 682.89,138.09 651.4,138.09 651.4,98.72 100.22,98.72 100.22,138.09 68.72,138.09

## CHERRY-MX-LED-1X2-5U [mil]
pads (7):
  round 80 hole 43: A(887.5,175) K(987.5,175)
  round 161 hole 161 unplated: MH1(937.5,375)
  round 67.2 hole 67.2 unplated: MH2(737.5,375) MH3(1137.5,375)
  round 127 hole 69: S1(787.5,475) S2(1037.5,575)
tDocu:
  lines w6: 0,0 1875,0 1875,750 0,750 0,0
  text "1x2.5U" at 1587.5,25 h77.5
tPlace:
  lines w8: 787.5,475 887.5,575 ; 907.5,525 1037.5,575 ; 697.5,110 1177.5,110 1177.5,640 697.5,640 697.5,110
  text "+" at 852.5,175 h51
  text "-" at 1037.5,175 h51
Reference:
  lines w3.94: 304.22,361.11 304.22,463.47 307.17,468.39 330.79,468.39 336.7,470.36 336.7,588.47 337.49,595.55 400.48,595.55 404.61,599.29 404.61,630.79 411.5,631.78 529.61,631.78 534.53,628.82 534.53,597.33 540.64,595.55 595.76,595.55 602.45,594.37 602.45,468.39 657.57,468.39 662.49,471.34 662.49,487.09 659.53,492.01 635.91,492.01 630.99,494.96 630.99,613.07 637.88,614.06 661.5,614.06 662.49,620.95 662.49,652.45 669.38,653.43 1212.68,653.43 1213.67,646.54 1213.67,615.04 1220.56,614.06 1244.18,614.06 1245.16,607.17 1245.16,496.93 1242.21,492.01 1218.59,492.01 1213.67,489.06 1213.67,473.31 1216.62,468.39 1271.74,468.39 1273.71,474.3 1273.71,592.41 1278.43,595.55 1341.43,595.55 1341.62,603.23 1341.62,626.86 1344.58,631.78 1470.56,631.78 1471.54,624.88 1471.54,601.26 1473.71,595.55 1536.7,595.55 1539.46,590.44 1539.46,472.32 1543.39,468.39 1567.02,468.39 1571.94,465.44 1571.94,363.07 1568.98,358.15 1545.36,358.15 1539.46,356.18 1539.46,112.09 1532.37,111.3 1477.25,111.3 1471.54,109.14 1471.54,77.64 1468.59,72.72 1342.6,72.72 1341.62,79.61 1341.62,111.11 1333.94,111.3 1278.83,111.3 1273.71,114.06 1273.71,287.29 1218.59,287.29 1213.67,284.33 1213.67,268.59 1216.62,263.66 1240.24,263.66 1245.16,260.71 1245.16,142.6 1238.27,141.62 1214.65,141.62 1213.67,134.73 1213.67,103.23 1206.78,102.25 663.47,102.25 662.49,109.14 662.49,140.63 655.6,141.62 631.97,141.62 630.99,148.51 630.99,258.74 633.95,263.66 657.57,263.66 662.49,266.62 662.49,282.37 659.53,287.29 604.41,287.29 602.45,281.38 602.45,116.03 599.3,111.3 536.3,111.3 534.53,105.2 534.53,73.7 527.64,72.72 409.53,72.72 404.61,75.67 404.61,107.17 400.87,111.3 337.88,111.3 336.7,118 336.7,354.22 332.76,358.15 309.14,358.15 304.22,361.11

## CHERRY-MX-LED-1X2-25 [mil]
pads (7):
  round 80 hole 43: A(794,175) K(894,175)
  round 161 hole 161 unplated: MH1(844,375)
  round 67.2 hole 67.2 unplated: MH2(644,375) MH3(1044,375)
  round 127 hole 69: S1(694,475) S2(944,575)
tDocu:
  lines w6: 0,0 1688,0 1688,750 0,750 0,0
  text "1x2.25U" at 1380.5,25 h77.5
tPlace:
  lines w8: 694,475 794,575 ; 814,525 944,575 ; 604,110 1084,110 1084,640 604,640 604,110
  text "+" at 759,175 h51
  text "-" at 944,175 h51
Reference:
  lines w3.94: 210.72,359.11 210.72,461.47 213.67,466.39 237.29,466.39 243.2,468.36 243.2,586.47 243.99,593.55 306.98,593.55 311.11,597.29 311.11,628.79 318,629.78 436.11,629.78 441.03,626.82 441.03,595.33 447.14,593.55 502.26,593.55 508.95,592.37 508.95,466.39 564.07,466.39 568.99,469.34 568.99,485.09 566.03,490.01 542.41,490.01 537.49,492.96 537.49,611.07 544.38,612.06 568,612.06 568.99,618.95 568.99,650.45 575.88,651.43 1119.18,651.43 1120.17,644.54 1120.17,613.04 1127.06,612.06 1150.68,612.06 1151.66,605.17 1151.66,494.93 1148.71,490.01 1125.09,490.01 1120.17,487.06 1120.17,471.31 1123.12,466.39 1178.24,466.39 1180.21,472.3 1180.21,590.41 1184.93,593.55 1247.93,593.55 1248.12,601.23 1248.12,624.86 1251.08,629.78 1377.06,629.78 1378.04,622.88 1378.04,599.26 1380.21,593.55 1443.2,593.55 1445.96,588.44 1445.96,470.32 1449.89,466.39 1473.52,466.39 1478.44,463.44 1478.44,361.07 1475.48,356.15 1451.86,356.15 1445.96,354.18 1445.96,110.09 1438.87,109.3 1383.75,109.3 1378.04,107.14 1378.04,75.64 1375.09,70.72 1249.1,70.72 1248.12,77.61 1248.12,109.11 1240.44,109.3 1185.33,109.3 1180.21,112.06 1180.21,285.29 1125.09,285.29 1120.17,282.33 1120.17,266.59 1123.12,261.66 1146.74,261.66 1151.66,258.71 1151.66,140.6 1144.77,139.62 1121.15,139.62 1120.17,132.73 1120.17,101.23 1113.28,100.25 569.97,100.25 568.99,107.14 568.99,138.63 562.1,139.62 538.47,139.62 537.49,146.51 537.49,256.74 540.45,261.66 564.07,261.66 568.99,264.62 568.99,280.37 566.03,285.29 510.91,285.29 508.95,279.38 508.95,114.03 505.8,109.3 442.8,109.3 441.03,103.2 441.03,71.7 434.14,70.72 316.03,70.72 311.11,73.67 311.11,105.17 307.37,109.3 244.38,109.3 243.2,116 243.2,352.22 239.26,356.15 215.64,356.15 210.72,359.11

## CHERRY-MX-LED-1X2-75 [mil]
pads (7):
  round 80 hole 43: A(981.5,175) K(1081.5,175)
  round 161 hole 161 unplated: MH1(1031.5,375)
  round 67.2 hole 67.2 unplated: MH2(831.5,375) MH3(1231.5,375)
  round 127 hole 69: S1(881.5,475) S2(1131.5,575)
tDocu:
  lines w6: 0,0 2063,0 2063,750 0,750 0,0
  text "1x2.75U" at 1681.5,25 h77.5
tPlace:
  lines w8: 881.5,475 981.5,575 ; 1001.5,525 1131.5,575 ; 791.5,110 1271.5,110 1271.5,640 791.5,640 791.5,110
  text "+" at 946.5,175 h51
  text "-" at 1131.5,175 h51
Reference:
  lines w3.94: 398.22,360.61 398.22,462.97 401.17,467.89 424.79,467.89 430.7,469.86 430.7,587.97 431.49,595.05 494.48,595.05 498.61,598.79 498.61,630.29 505.5,631.28 623.61,631.28 628.53,628.32 628.53,596.83 634.64,595.05 689.76,595.05 696.45,593.87 696.45,467.89 751.57,467.89 756.49,470.84 756.49,486.59 753.53,491.51 729.91,491.51 724.99,494.46 724.99,612.57 731.88,613.56 755.5,613.56 756.49,620.45 756.49,651.95 763.38,652.93 1306.68,652.93 1307.67,646.04 1307.67,614.54 1314.56,613.56 1338.18,613.56 1339.16,606.67 1339.16,496.43 1336.21,491.51 1312.59,491.51 1307.67,488.56 1307.67,472.81 1310.62,467.89 1365.74,467.89 1367.71,473.8 1367.71,591.91 1372.43,595.05 1435.43,595.05 1435.62,602.73 1435.62,626.36 1438.58,631.28 1564.56,631.28 1565.54,624.38 1565.54,600.76 1567.71,595.05 1630.7,595.05 1633.46,589.94 1633.46,471.82 1637.39,467.89 1661.02,467.89 1665.94,464.94 1665.94,362.57 1662.98,357.65 1639.36,357.65 1633.46,355.68 1633.46,111.59 1626.37,110.8 1571.25,110.8 1565.54,108.64 1565.54,77.14 1562.59,72.22 1436.6,72.22 1435.62,79.11 1435.62,110.61 1427.94,110.8 1372.83,110.8 1367.71,113.56 1367.71,286.79 1312.59,286.79 1307.67,283.83 1307.67,268.09 1310.62,263.16 1334.24,263.16 1339.16,260.21 1339.16,142.1 1332.27,141.12 1308.65,141.12 1307.67,134.23 1307.67,102.73 1300.78,101.75 757.47,101.75 756.49,108.64 756.49,140.13 749.6,141.12 725.97,141.12 724.99,148.01 724.99,258.24 727.95,263.16 751.57,263.16 756.49,266.12 756.49,281.87 753.53,286.79 698.41,286.79 696.45,280.88 696.45,115.53 693.3,110.8 630.3,110.8 628.53,104.7 628.53,73.2 621.64,72.22 503.53,72.22 498.61,75.17 498.61,106.67 494.87,110.8 431.88,110.8 430.7,117.5 430.7,353.72 426.76,357.65 403.14,357.65 398.22,360.61

## CHERRY-MX-LED-1X2U [mil]
pads (7):
  round 80 hole 43: A(700,175) K(800,175)
  round 161 hole 161 unplated: MH1(750,375)
  round 67.2 hole 67.2 unplated: MH2(550,375) MH3(950,375)
  round 127 hole 69: S1(600,475) S2(850,575)
tDocu:
  lines w6: 0,0 1500,0 1500,750 0,750 0,0
  text "1x2U" at 1313.5,26 h77.5
tPlace:
  lines w8: 600,475 700,575 ; 720,525 850,575 ; 510,110 990,110 990,640 510,640 510,110
  text "+" at 665,175 h51
  text "-" at 850,175 h51
Reference:
  lines w3.94: 116.72,359.11 116.72,461.47 119.67,466.39 143.29,466.39 149.2,468.36 149.2,586.47 149.99,593.55 212.98,593.55 217.11,597.29 217.11,628.79 224,629.78 342.11,629.78 347.03,626.82 347.03,595.33 353.14,593.55 408.26,593.55 414.95,592.37 414.95,466.39 470.07,466.39 474.99,469.34 474.99,485.09 472.03,490.01 448.41,490.01 443.49,492.96 443.49,611.07 450.38,612.06 474,612.06 474.99,618.95 474.99,650.45 481.88,651.43 1025.18,651.43 1026.17,644.54 1026.17,613.04 1033.06,612.06 1056.68,612.06 1057.66,605.17 1057.66,494.93 1054.71,490.01 1031.09,490.01 1026.17,487.06 1026.17,471.31 1029.12,466.39 1084.24,466.39 1086.21,472.3 1086.21,590.41 1090.93,593.55 1153.93,593.55 1154.12,601.23 1154.12,624.86 1157.08,629.78 1283.06,629.78 1284.04,622.88 1284.04,599.26 1286.21,593.55 1349.2,593.55 1351.96,588.44 1351.96,470.32 1355.89,466.39 1379.52,466.39 1384.44,463.44 1384.44,361.07 1381.48,356.15 1357.86,356.15 1351.96,354.18 1351.96,110.09 1344.87,109.3 1289.75,109.3 1284.04,107.14 1284.04,75.64 1281.09,70.72 1155.1,70.72 1154.12,77.61 1154.12,109.11 1146.44,109.3 1091.33,109.3 1086.21,112.06 1086.21,285.29 1031.09,285.29 1026.17,282.33 1026.17,266.59 1029.12,261.66 1052.74,261.66 1057.66,258.71 1057.66,140.6 1050.77,139.62 1027.15,139.62 1026.17,132.73 1026.17,101.23 1019.28,100.25 475.97,100.25 474.99,107.14 474.99,138.63 468.1,139.62 444.47,139.62 443.49,146.51 443.49,256.74 446.45,261.66 470.07,261.66 474.99,264.62 474.99,280.37 472.03,285.29 416.91,285.29 414.95,279.38 414.95,114.03 411.8,109.3 348.8,109.3 347.03,103.2 347.03,71.7 340.14,70.72 222.03,70.72 217.11,73.67 217.11,105.17 213.37,109.3 150.38,109.3 149.2,116 149.2,352.22 145.26,356.15 121.64,356.15 116.72,359.11

## CHERRY-MX-LED-1X6-25 [mil]
pads (7):
  round 80 hole 43: A(2294,175) K(2394,175)
  round 161 hole 161 unplated: MH1(2344,375)
  round 67.2 hole 67.2 unplated: MH2(2144,375) MH3(2544,375)
  round 127 hole 69: S1(2194,475) S2(2444,575)
tDocu:
  lines w6: 0,0 4688,0 4688,750 0,750 0,0
  text "1x6.25U" at 4344,25 h77.5
tPlace:
  lines w8: 2194,475 2294,575 ; 2314,525 2444,575 ; 2104,110 2584,110 2584,640 2104,640 2104,110
  text "+" at 2259,175 h51
  text "-" at 2444,175 h51
Reference:
  lines w3.94: 210.72,359.11 210.72,461.47 213.67,466.39 237.29,466.39 243.2,468.36 243.2,586.47 243.99,593.55 306.98,593.55 311.11,597.29 311.11,628.79 318,629.78 436.11,629.78 441.03,626.82 441.03,595.33 447.14,593.55 502.26,593.55 508.95,592.37 508.95,466.39 2068,466.39 2068.99,473.28 2068.99,489.03 2062.1,490.01 2038.47,490.01 2037.49,496.9 2037.49,607.14 2040.44,612.06 2064.07,612.06 2068.99,615.01 2068.99,646.51 2071.94,651.43 2615.25,651.43 2620.17,648.48 2620.17,616.98 2623.12,612.06 2646.74,612.06 2651.66,609.11 2651.66,491 2644.77,490.01 2621.15,490.01 2620.17,483.12 2620.17,467.37 2627.06,466.39 4178.24,466.39 4180.21,472.3 4180.21,590.41 4184.93,593.55 4247.92,593.55 4248.12,601.23 4248.12,624.85 4251.07,629.78 4377.06,629.78 4378.04,622.88 4378.04,599.26 4380.21,593.55 4443.2,593.55 4445.96,588.44 4445.96,470.33 4449.89,466.39 4473.52,466.39 4478.44,463.44 4478.44,361.07 4475.48,356.15 4451.86,356.15 4445.96,354.18 4445.96,110.09 4438.87,109.3 4383.75,109.3 4378.04,107.14 4378.04,75.64 4375.09,70.72 4249.11,70.72 4248.12,77.61 4248.12,109.11 4240.44,109.3 4185.33,109.3 4180.21,112.06 4180.21,285.29 2621.15,285.29 2620.17,278.4 2620.17,262.65 2627.06,261.66 2650.68,261.66 2651.66,254.77 2651.66,144.54 2648.71,139.62 2625.09,139.62 2620.17,136.66 2620.17,105.17 2617.22,100.25 2073.91,100.25 2068.99,103.2 2068.99,134.7 2066.03,139.62 2042.41,139.62 2037.49,142.57 2037.49,260.68 2044.38,261.66 2068,261.66 2068.99,268.55 2068.99,284.3 2062.1,285.29 510.92,285.29 508.95,279.38 508.95,114.03 505.8,109.3 442.81,109.3 441.03,103.2 441.03,71.7 434.15,70.72 316.04,70.72 311.11,73.67 311.11,105.17 307.37,109.3 244.38,109.3 243.2,116 243.2,352.22 239.26,356.15 215.64,356.15 210.72,359.11

## CHERRY-MX-LED-2X1U [mil]
pads (7):
  round 80 hole 43: A(175,800) K(175,700)
  round 161 hole 161 unplated: MH1(375,750)
  round 67.2 hole 67.2 unplated: MH2(375,950) MH3(375,550)
  round 127 hole 69: S1(475,900) S2(575,650)
tDocu:
  lines w6: 0,0 750,0 750,1500 0,1500 0,0
  text "2x1U" at 525,50 h77.5
tPlace:
  lines w8: 475,900 575,800 ; 525,780 575,650 ; 110,510 640,510 640,990 110,990 110,510
  text "+" at 175,835 h51
  text "-" at 175,650 h51
Reference:
  lines w3.94: 67.22,218.91 67.22,344.9 74.11,345.88 105.61,345.88 105.8,353.56 105.8,408.67 108.56,413.79 281.79,413.79 281.79,468.91 278.83,473.83 263.09,473.83 258.16,470.88 258.16,447.26 255.21,442.34 137.1,442.34 136.12,449.23 136.12,472.85 129.23,473.83 97.73,473.83 96.75,480.72 96.75,1024.03 103.64,1025.01 135.13,1025.01 136.12,1031.9 136.12,1055.53 143.01,1056.51 253.24,1056.51 258.16,1053.55 258.16,1029.93 261.12,1025.01 276.87,1025.01 281.79,1027.97 281.79,1083.09 275.88,1085.05 110.53,1085.05 105.8,1088.2 105.8,1151.2 99.7,1152.97 68.2,1152.97 67.22,1159.86 67.22,1277.97 70.17,1282.89 101.67,1282.89 105.8,1286.63 105.8,1349.62 112.5,1350.8 348.72,1350.8 352.65,1354.74 352.65,1378.36 355.61,1383.28 457.97,1383.28 462.89,1380.33 462.89,1356.71 464.86,1350.8 582.97,1350.8 590.05,1350.01 590.05,1287.02 593.79,1282.89 625.29,1282.89 626.28,1276 626.28,1157.89 623.32,1152.97 591.83,1152.97 590.05,1146.86 590.05,1091.74 588.87,1085.05 462.89,1085.05 462.89,1029.93 465.84,1025.01 481.59,1025.01 486.51,1027.97 486.51,1051.59 489.46,1056.51 607.57,1056.51 608.56,1049.62 608.56,1026 615.45,1025.01 646.95,1025.01 647.93,1018.12 647.93,474.82 641.04,473.83 609.54,473.83 608.56,466.94 608.56,443.32 601.67,442.34 491.43,442.34 486.51,445.29 486.51,468.91 483.56,473.83 467.81,473.83 462.89,470.88 462.89,415.76 468.8,413.79 586.91,413.79 590.05,409.07 590.05,346.07 597.73,345.88 621.36,345.88 626.28,342.92 626.28,216.94 619.38,215.96 595.76,215.96 590.05,213.79 590.05,150.8 584.94,148.04 466.82,148.04 462.89,144.11 462.89,120.48 459.94,115.56 357.57,115.56 352.65,118.52 352.65,142.14 350.68,148.04 106.59,148.04 105.8,155.13 105.8,210.25 103.64,215.96 72.14,215.96 67.22,218.91